# Altium schematic symbol library SCH - CRYSTALS - Abracon ASFL1-27.000MHZ-EK-T.Schlib: 1 symbol
Pins are listed as number, name and electrical type; pins without a type are passive.

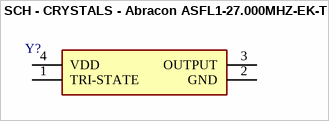
[diagram p0: symbol SCH - CRYSTALS - Abracon ASFL1-27.000MHZ-EK-T]

## SCH - CRYSTALS - Abracon ASFL1-27.000MHZ-EK-T
designator Y?
footprint ASFL136864MHZEKT
pins: 1 TRI-STATE, 2 GND, 3 OUTPUT, 4 VDD